# Altium integrated library SparkFun-Coils.IntLib: 13 symbols
Pins are listed as number, name and electrical type; pins without a type are passive.

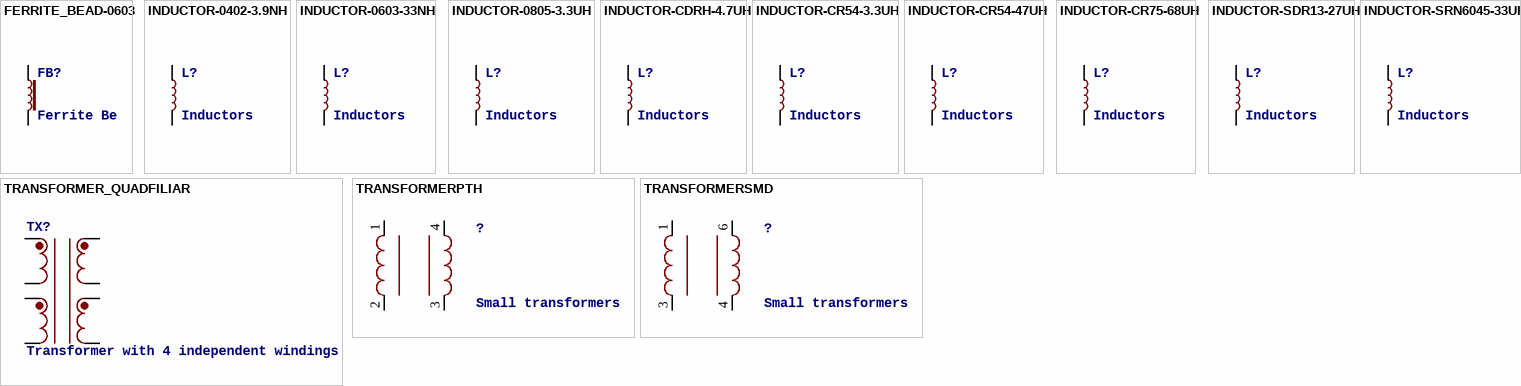
[diagram p0: symbols FERRITE_BEAD-0603 to TRANSFORMERSMD]

## FERRITE_BEAD-0603
designator FB?, comment Ferrite Bead (blocks, cores, rings, chokes, etc.)    Inductor with layers of ferrite used to suppress high frequencies. Often used to isolate high frequency noise.   SparkFun Products:  IOIO-OTG - V2.2  SparkFun SAMD21 Mini Breakout  SparkFun 6 Degrees of Freedom Breakout - LSM6DS3  SparkFun SAMD21 Dev Breakout
PROD_ID: NDUC-07859
footprint 0603
pins: 1, 2

## INDUCTOR-0402-3.9NH
designator L?, comment Inductors    Resist changes in electrical current. Basically a coil of wire.   SparkFun Products:  SparkFun Load Cell Amplifier - HX711  IOIO-OTG - V2.2
PROD_ID: NDUC-13457
footprint 0402
pins: 1, 2

## INDUCTOR-0603-33NH
designator L?, comment Inductors    Resist changes in electrical current. Basically a coil of wire.   SparkFun Products:  SparkFun Load Cell Amplifier - HX711  IOIO-OTG - V2.2
PROD_ID: NDUC-07874
footprint 0603
pins: 1, 2

## INDUCTOR-0805-3.3UH
designator L?, comment Inductors    Resist changes in electrical current. Basically a coil of wire.   SparkFun Products:  SparkFun Load Cell Amplifier - HX711  IOIO-OTG - V2.2
PROD_ID: NDUC-13076
footprint 0805
pins: 1, 2

## INDUCTOR-CDRH-4.7UH
designator L?, comment Inductors    Resist changes in electrical current. Basically a coil of wire.   SparkFun Products:  SparkFun Load Cell Amplifier - HX711  IOIO-OTG - V2.2
PROD_ID: NDUC-10146
footprint INDUCTOR_4.7UH
pins: P$1 1, P$2 2

## INDUCTOR-CR54-3.3UH
designator L?, comment Inductors    Resist changes in electrical current. Basically a coil of wire.   SparkFun Products:  SparkFun Load Cell Amplifier - HX711  IOIO-OTG - V2.2
PROD_ID: NDUC-11157
footprint CR54
pins: P$1 1, P$2 2

## INDUCTOR-CR54-47UH
designator L?, comment Inductors    Resist changes in electrical current. Basically a coil of wire.   SparkFun Products:  SparkFun Load Cell Amplifier - HX711  IOIO-OTG - V2.2
PROD_ID: NDUC-10789
footprint CR54
pins: P$1 1, P$2 2

## INDUCTOR-CR75-68UH
designator L?, comment Inductors    Resist changes in electrical current. Basically a coil of wire.   SparkFun Products:  SparkFun Load Cell Amplifier - HX711  IOIO-OTG - V2.2
PROD_ID: NDUC-09739
footprint CR75
pins: P$1 1, P$2 2

## INDUCTOR-SDR13-27UH
designator L?, comment Inductors    Resist changes in electrical current. Basically a coil of wire.   SparkFun Products:  SparkFun Load Cell Amplifier - HX711  IOIO-OTG - V2.2
PROD_ID: NDUC-12529
footprint INDUCTOR_SDR1307
pins: P$1 1, P$2 2

## INDUCTOR-SRN6045-33UH
designator L?, comment Inductors    Resist changes in electrical current. Basically a coil of wire.   SparkFun Products:  SparkFun Load Cell Amplifier - HX711  IOIO-OTG - V2.2
PROD_ID: NDUC-11627
footprint SRN6045
pins: 1, 2

## TRANSFORMER_QUADFILIAR
designator TX?, comment Transformer with 4 independent windings
footprint COILCRAFT_DA230X
pins: P$1 1, P$2 2, P$3 3, P$4 4, P$5 5, P$6 6, P$7 7, P$8 8

## TRANSFORMERPTH
designator ?, comment Small transformers
footprint TRANSFORMER
pins: 1, 2, 3, 4

## TRANSFORMERSMD
designator ?, comment Small transformers
footprint TRANSFORMER_SMD
pins: 1, 3 2, 4 3, 6 4